# Altium footprint library Actel IGLOO nano.PcbLib: 12 footprints
Each footprint in its own frame and in the unit in brackets; x right, y up, seen from the top. Pads: shape width x height; smd on the part's side, far side on the other; paste and mask are expansions set on the pad; w line width, h text height; cw(c..) or ccw(c..) is an arc to the next point about the centre after c.
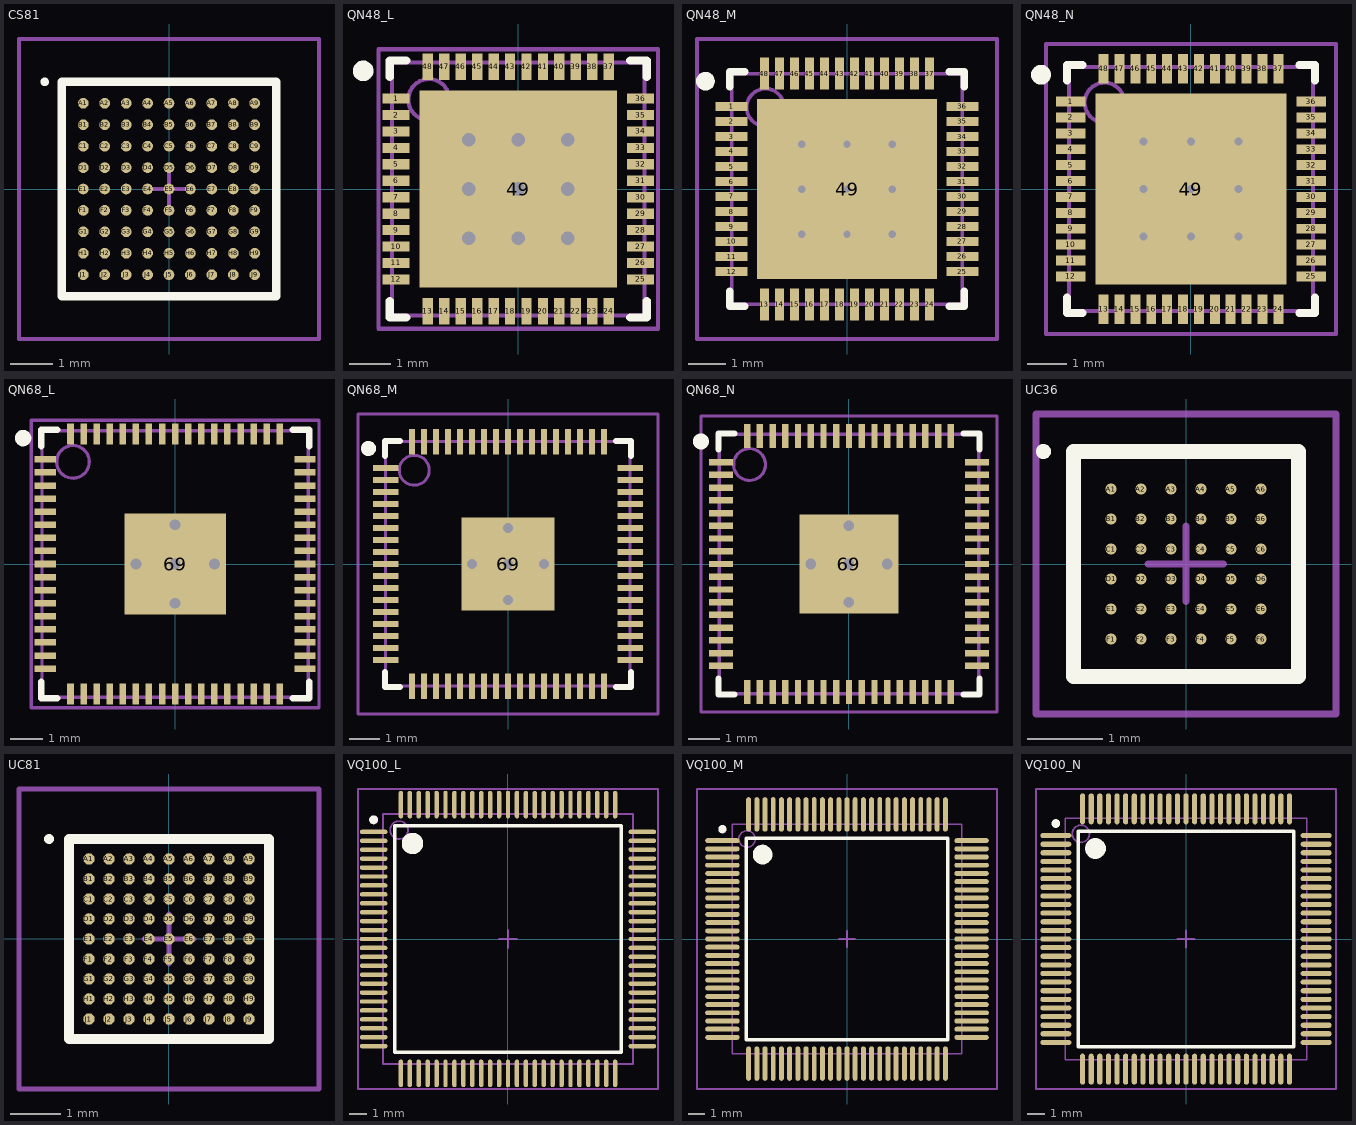
[diagram p0: the footprints below, top view; thin cyan lines are the x and y axes]

## CS81 [mm] "BGA, 81-Leads, Body 5x5mm, Pitch 0.5mm"
height 0.8
pads (81):
  round 0.25 smd: A1(-2,2) A2(-1.5,2) A3(-1,2) A4(-0.5,2) A5(0,2) A6(0.5,2) A7(1,2) A8(1.5,2) A9(2,2) B1(-2,1.5) B2(-1.5,1.5) B3(-1,1.5) B4(-0.5,1.5) B5(0,1.5) B6(0.5,1.5) B7(1,1.5) B8(1.5,1.5) B9(2,1.5) C1(-2,1) C2(-1.5,1) C3(-1,1) C4(-0.5,1) C5(0,1) C6(0.5,1) C7(1,1) C8(1.5,1) C9(2,1) D1(-2,0.5) D2(-1.5,0.5) D3(-1,0.5) D4(-0.5,0.5) D5(0,0.5) D6(0.5,0.5) D7(1,0.5) D8(1.5,0.5) D9(2,0.5) E1(-2,0) E2(-1.5,0) E3(-1,0) E4(-0.5,0) E5(0,0) E6(0.5,0) E7(1,0) E8(1.5,0) E9(2,0) F1(-2,-0.5) F2(-1.5,-0.5) F3(-1,-0.5) F4(-0.5,-0.5) F5(0,-0.5) F6(0.5,-0.5) F7(1,-0.5) F8(1.5,-0.5) F9(2,-0.5) G1(-2,-1) G2(-1.5,-1) G3(-1,-1) G4(-0.5,-1) G5(0,-1) G6(0.5,-1) G7(1,-1) G8(1.5,-1) G9(2,-1) H1(-2,-1.5) H2(-1.5,-1.5) H3(-1,-1.5) H4(-0.5,-1.5) H5(0,-1.5) H6(0.5,-1.5) H7(1,-1.5) H8(1.5,-1.5) H9(2,-1.5) J1(-2,-2) J2(-1.5,-2) J3(-1,-2) J4(-0.5,-2) J5(0,-2) J6(0.5,-2) J7(1,-2) J8(1.5,-2) J9(2,-2)
Top Overlay:
  circle w0.1: c-2.9,2.5 r0.05
  lines w0.2: -2.5,-2.5 -2.5,2.5 2.5,2.5 2.5,-2.5 -2.5,-2.5
Mechanical 13:
  lines w0.1: -2.5,-2.5 -2.5,2.5 2.5,2.5 2.5,-2.5 -2.5,-2.5
Mechanical 15:
  lines w0.1: -0.5,0 0.5,0 ; 0,-0.5 0,0.5 ; -3.5,-3.5 -3.5,3.5 3.5,3.5 3.5,-3.5 -3.5,-3.5
3D body: height 0.8, standoff 0.05, extent -2.5,-2.5 2.5,2.5

## QN48_L [mm] "QFN, 48-Leads, Body 6x6 mm, Pitch 0.4mm, IPC High Density"
height 1
pads (49):
  rect 0.65x0.25 smd: 1(-2.975,2.2) 2(-2.975,1.8) 3(-2.975,1.4) 4(-2.975,1) 5(-2.975,0.6) 6(-2.975,0.2) 7(-2.975,-0.2) 8(-2.975,-0.6) 9(-2.975,-1) 10(-2.975,-1.4) 11(-2.975,-1.8) 12(-2.975,-2.2) 25(2.975,-2.2) 26(2.975,-1.8) 27(2.975,-1.4) 28(2.975,-1) 29(2.975,-0.6) 30(2.975,-0.2) 31(2.975,0.2) 32(2.975,0.6) 33(2.975,1) 34(2.975,1.4) 35(2.975,1.8) 36(2.975,2.2)
  rect 0.25x0.65 smd: 13(-2.2,-2.975) 14(-1.8,-2.975) 15(-1.4,-2.975) 16(-1,-2.975) 17(-0.6,-2.975) 18(-0.2,-2.975) 19(0.2,-2.975) 20(0.6,-2.975) 21(1,-2.975) 22(1.4,-2.975) 23(1.8,-2.975) 24(2.2,-2.975) 37(2.2,2.975) 38(1.8,2.975) 39(1.4,2.975) 40(1,2.975) 41(0.6,2.975) 42(0.2,2.975) 43(-0.2,2.975) 44(-0.6,2.975) 45(-1,2.975) 46(-1.4,2.975) 47(-1.8,2.975) 48(-2.2,2.975)
  rect 4.8x4.8 smd paste-2.4 mask+0.062: 49(0,0)
via 1.2,1.2 diameter 0.66 hole 0.33
via -1.2,1.2 diameter 0.66 hole 0.33
via 0,1.2 diameter 0.66 hole 0.33
via 1.2,-1.2 diameter 0.66 hole 0.33
via -1.2,-1.2 diameter 0.66 hole 0.33
via 0,-1.2 diameter 0.66 hole 0.33
via 0,0 diameter 0.66 hole 0.33
via -1.2,0 diameter 0.66 hole 0.33
via 1.2,0 diameter 0.66 hole 0.33
Top Overlay:
  circle w0.25: c-3.775,2.875 r0.125
  lines w0.2: -3.125,-2.725 -3.125,-3.125 -2.725,-3.125 ; -3.125,2.725 -3.125,3.125 -2.725,3.125 ; 2.725,-3.125 3.125,-3.125 3.125,-2.725 ; 2.725,3.125 3.125,3.125 3.125,2.725
Top Paste:
  rectangle: 0.1,-1.1 1.1,-0.1
  rectangle: 1.3,-2.3 2.3,-1.3
  rectangle: 1.3,-1.1 2.3,-0.1
  rectangle: 0.1,-2.3 1.1,-1.3
  region: -0.1,-0.1 -1.1,-0.1 -1.1,-1.1 -0.1,-1.1
  region: -1.3,-1.3 -2.3,-1.3 -2.3,-2.3 -1.3,-2.3
  region: -1.3,-0.1 -2.3,-0.1 -2.3,-1.1 -1.3,-1.1
  region: -0.1,-1.3 -1.1,-1.3 -1.1,-2.3 -0.1,-2.3
  region: -0.1,1.1 -1.1,1.1 -1.1,0.1 -0.1,0.1
  region: -1.3,2.3 -2.3,2.3 -2.3,1.3 -1.3,1.3
  region: -1.3,1.1 -2.3,1.1 -2.3,0.1 -1.3,0.1
  region: -0.1,2.3 -1.1,2.3 -1.1,1.3 -0.1,1.3
  rectangle: 0.1,1.3 1.1,2.3
  rectangle: 1.3,0.1 2.3,1.1
  rectangle: 1.3,1.3 2.3,2.3
  rectangle: 0.1,0.1 1.1,1.1
Mechanical 13:
  circle w0.1: c-2.175,2.175 r0.5
  lines w0.1: -3.075,-3.075 3.075,-3.075 3.075,3.075 -3.075,3.075 -3.075,-3.075
Mechanical 15:
  lines w0.1: -0.5,0 0.5,0 ; 0,-0.5 0,0.5 ; -3.4,-3.4 3.4,-3.4 3.4,3.4 -3.4,3.4 -3.4,-3.4
3D body: height 1, standoff 0, extent -3.074,-3.074 3.074,3.074

## QN48_M [mm] "QFN, 48-Leads, Body 6x6 mm, Pitch 0.4mm, IPC Low Density"
height 1
pads (49):
  rect 0.85x0.25 smd: 1(-3.075,2.2) 2(-3.075,1.8) 3(-3.075,1.4) 4(-3.075,1) 5(-3.075,0.6) 6(-3.075,0.2) 7(-3.075,-0.2) 8(-3.075,-0.6) 9(-3.075,-1) 10(-3.075,-1.4) 11(-3.075,-1.8) 12(-3.075,-2.2) 25(3.075,-2.2) 26(3.075,-1.8) 27(3.075,-1.4) 28(3.075,-1) 29(3.075,-0.6) 30(3.075,-0.2) 31(3.075,0.2) 32(3.075,0.6) 33(3.075,1) 34(3.075,1.4) 35(3.075,1.8) 36(3.075,2.2)
  rect 0.25x0.85 smd: 13(-2.2,-3.075) 14(-1.8,-3.075) 15(-1.4,-3.075) 16(-1,-3.075) 17(-0.6,-3.075) 18(-0.2,-3.075) 19(0.2,-3.075) 20(0.6,-3.075) 21(1,-3.075) 22(1.4,-3.075) 23(1.8,-3.075) 24(2.2,-3.075) 37(2.2,3.075) 38(1.8,3.075) 39(1.4,3.075) 40(1,3.075) 41(0.6,3.075) 42(0.2,3.075) 43(-0.2,3.075) 44(-0.6,3.075) 45(-1,3.075) 46(-1.4,3.075) 47(-1.8,3.075) 48(-2.2,3.075)
  rect 4.8x4.8 smd paste-2.4 mask+0.062: 49(0,0)
via 1.2,1.2 diameter 0.5 hole 0.2
via -1.2,1.2 diameter 0.5 hole 0.2
via 0,1.2 diameter 0.5 hole 0.2
via 1.2,-1.2 diameter 0.5 hole 0.2
via -1.2,-1.2 diameter 0.5 hole 0.2
via 0,-1.2 diameter 0.5 hole 0.2
via 0,0 diameter 0.5 hole 0.2
via -1.2,0 diameter 0.5 hole 0.2
via 1.2,0 diameter 0.5 hole 0.2
Top Overlay:
  circle w0.25: c-3.775,2.875 r0.125
  lines w0.2: -3.125,-2.725 -3.125,-3.125 -2.725,-3.125 ; -3.125,2.725 -3.125,3.125 -2.725,3.125 ; 2.725,-3.125 3.125,-3.125 3.125,-2.725 ; 2.725,3.125 3.125,3.125 3.125,2.725
Top Paste:
  rectangle: 0.1,-1.1 1.1,-0.1
  rectangle: 1.3,-2.3 2.3,-1.3
  rectangle: 1.3,-1.1 2.3,-0.1
  rectangle: 0.1,-2.3 1.1,-1.3
  region: -0.1,-0.1 -1.1,-0.1 -1.1,-1.1 -0.1,-1.1
  region: -1.3,-1.3 -2.3,-1.3 -2.3,-2.3 -1.3,-2.3
  region: -1.3,-0.1 -2.3,-0.1 -2.3,-1.1 -1.3,-1.1
  region: -0.1,-1.3 -1.1,-1.3 -1.1,-2.3 -0.1,-2.3
  region: -0.1,1.1 -1.1,1.1 -1.1,0.1 -0.1,0.1
  region: -1.3,2.3 -2.3,2.3 -2.3,1.3 -1.3,1.3
  region: -1.3,1.1 -2.3,1.1 -2.3,0.1 -1.3,0.1
  region: -0.1,2.3 -1.1,2.3 -1.1,1.3 -0.1,1.3
  rectangle: 0.1,1.3 1.1,2.3
  rectangle: 1.3,0.1 2.3,1.1
  rectangle: 1.3,1.3 2.3,2.3
  rectangle: 0.1,0.1 1.1,1.1
Mechanical 13:
  circle w0.1: c-2.175,2.175 r0.5
  lines w0.1: -3.075,-3.075 -3.075,3.075 3.075,3.075 3.075,-3.075 -3.075,-3.075
Mechanical 15:
  lines w0.1: -0.5,0 0.5,0 ; 0,-0.5 0,0.5 ; -4,-4 -4,4 4,4 4,-4 -4,-4
3D body: height 1, standoff 0, extent -3.074,-3.074 3.074,3.074

## QN48_N [mm] "QFN, 48-Leads, Body 6x6 mm, Pitch 0.4mm, IPC Medium Density"
height 1
pads (49):
  rect 0.75x0.25 smd: 1(-3.025,2.2) 2(-3.025,1.8) 3(-3.025,1.4) 4(-3.025,1) 5(-3.025,0.6) 6(-3.025,0.2) 7(-3.025,-0.2) 8(-3.025,-0.6) 9(-3.025,-1) 10(-3.025,-1.4) 11(-3.025,-1.8) 12(-3.025,-2.2) 25(3.025,-2.2) 26(3.025,-1.8) 27(3.025,-1.4) 28(3.025,-1) 29(3.025,-0.6) 30(3.025,-0.2) 31(3.025,0.2) 32(3.025,0.6) 33(3.025,1) 34(3.025,1.4) 35(3.025,1.8) 36(3.025,2.2)
  rect 0.25x0.75 smd: 13(-2.2,-3.025) 14(-1.8,-3.025) 15(-1.4,-3.025) 16(-1,-3.025) 17(-0.6,-3.025) 18(-0.2,-3.025) 19(0.2,-3.025) 20(0.6,-3.025) 21(1,-3.025) 22(1.4,-3.025) 23(1.8,-3.025) 24(2.2,-3.025) 37(2.2,3.025) 38(1.8,3.025) 39(1.4,3.025) 40(1,3.025) 41(0.6,3.025) 42(0.2,3.025) 43(-0.2,3.025) 44(-0.6,3.025) 45(-1,3.025) 46(-1.4,3.025) 47(-1.8,3.025) 48(-2.2,3.025)
  rect 4.8x4.8 smd paste-2.4 mask+0.062: 49(0,0)
via 1.2,0 diameter 0.5 hole 0.2
via -1.2,0 diameter 0.5 hole 0.2
via 0,0 diameter 0.5 hole 0.2
via 0,-1.2 diameter 0.5 hole 0.2
via -1.2,-1.2 diameter 0.5 hole 0.2
via 1.2,-1.2 diameter 0.5 hole 0.2
via 0,1.2 diameter 0.5 hole 0.2
via -1.2,1.2 diameter 0.5 hole 0.2
via 1.2,1.2 diameter 0.5 hole 0.2
Top Overlay:
  circle w0.25: c-3.775,2.875 r0.125
  lines w0.2: -3.125,-2.725 -3.125,-3.125 -2.725,-3.125 ; -3.125,2.725 -3.125,3.125 -2.725,3.125 ; 2.725,-3.125 3.125,-3.125 3.125,-2.725 ; 2.725,3.125 3.125,3.125 3.125,2.725
Top Paste:
  rectangle: 0.1,0.1 1.1,1.1
  rectangle: 1.3,1.3 2.3,2.3
  rectangle: 1.3,0.1 2.3,1.1
  rectangle: 0.1,1.3 1.1,2.3
  region: -0.1,2.3 -1.1,2.3 -1.1,1.3 -0.1,1.3
  region: -1.3,1.1 -2.3,1.1 -2.3,0.1 -1.3,0.1
  region: -1.3,2.3 -2.3,2.3 -2.3,1.3 -1.3,1.3
  region: -0.1,1.1 -1.1,1.1 -1.1,0.1 -0.1,0.1
  region: -0.1,-1.3 -1.1,-1.3 -1.1,-2.3 -0.1,-2.3
  region: -1.3,-0.1 -2.3,-0.1 -2.3,-1.1 -1.3,-1.1
  region: -1.3,-1.3 -2.3,-1.3 -2.3,-2.3 -1.3,-2.3
  region: -0.1,-0.1 -1.1,-0.1 -1.1,-1.1 -0.1,-1.1
  rectangle: 0.1,-2.3 1.1,-1.3
  rectangle: 1.3,-1.1 2.3,-0.1
  rectangle: 1.3,-2.3 2.3,-1.3
  rectangle: 0.1,-1.1 1.1,-0.1
Mechanical 13:
  circle w0.1: c-2.175,2.175 r0.5
  lines w0.1: -3.075,-3.075 3.075,-3.075 3.075,3.075 -3.075,3.075 -3.075,-3.075
Mechanical 15:
  lines w0.1: -0.5,0 0.5,0 ; 0,-0.5 0,0.5 ; -3.65,-3.65 3.65,-3.65 3.65,3.65 -3.65,3.65 -3.65,-3.65
3D body: height 1, standoff 0, extent -3.074,-3.074 3.074,3.074

## QN68_L [mm] "QFN, 68-Leads, Body 8x8 mm, Pitch 0.4mm, IPC High Density"
height 1
pads (69):
  rect 0.65x0.2 smd: 1(-3.975,3.2) 2(-3.975,2.8) 3(-3.975,2.4) 4(-3.975,2) 5(-3.975,1.6) 6(-3.975,1.2) 7(-3.975,0.8) 8(-3.975,0.4) 9(-3.975,0) 10(-3.975,-0.4) 11(-3.975,-0.8) 12(-3.975,-1.2) 13(-3.975,-1.6) 14(-3.975,-2) 15(-3.975,-2.4) 16(-3.975,-2.8) 17(-3.975,-3.2) 35(3.975,-3.2) 36(3.975,-2.8) 37(3.975,-2.4) 38(3.975,-2) 39(3.975,-1.6) 40(3.975,-1.2) 41(3.975,-0.8) 42(3.975,-0.4) 43(3.975,0) 44(3.975,0.4) 45(3.975,0.8) 46(3.975,1.2) 47(3.975,1.6) 48(3.975,2) 49(3.975,2.4) 50(3.975,2.8) 51(3.975,3.2)
  rect 0.2x0.65 smd: 18(-3.2,-3.975) 19(-2.8,-3.975) 20(-2.4,-3.975) 21(-2,-3.975) 22(-1.6,-3.975) 23(-1.2,-3.975) 24(-0.8,-3.975) 25(-0.4,-3.975) 26(0,-3.975) 27(0.4,-3.975) 28(0.8,-3.975) 29(1.2,-3.975) 30(1.6,-3.975) 31(2,-3.975) 32(2.4,-3.975) 33(2.8,-3.975) 34(3.2,-3.975) 52(3.2,3.975) 53(2.8,3.975) 54(2.4,3.975) 55(2,3.975) 56(1.6,3.975) 57(1.2,3.975) 58(0.8,3.975) 59(0.4,3.975) 60(0,3.975) 61(-0.4,3.975) 62(-0.8,3.975) 63(-1.2,3.975) 64(-1.6,3.975) 65(-2,3.975) 66(-2.4,3.975) 67(-2.8,3.975) 68(-3.2,3.975)
  rect 3.1x3.1 smd paste-1.55 mask+0.062: 69(0,0)
via 0,-1.2 diameter 0.66 hole 0.33
via 1.2,0 diameter 0.66 hole 0.33
via 0,0 diameter 0.66 hole 0.33
via -1.2,0 diameter 0.66 hole 0.33
via 0,1.2 diameter 0.66 hole 0.33
Top Overlay:
  circle w0.25: c-4.65,3.85 r0.125
  lines w0.2: -4.1,-3.6 -4.1,-4.1 -3.6,-4.1 ; -4.1,3.6 -4.1,4.1 -3.6,4.1 ; 3.6,-4.1 4.1,-4.1 4.1,-3.6 ; 3.6,4.1 4.1,4.1 4.1,3.6
Top Paste:
  rectangle: 0.1,-1.4 1.4,-0.1
  region: -0.1,-0.1 -1.4,-0.1 -1.4,-1.4 -0.1,-1.4
  region: -0.1,1.4 -1.4,1.4 -1.4,0.1 -0.1,0.1
  rectangle: 0.1,0.1 1.4,1.4
Mechanical 13:
  circle w0.1: c-3.125,3.125 r0.5
  lines w0.1: -4.075,-4.075 -4.075,4.075 4.075,4.075 4.075,-4.075 -4.075,-4.075
Mechanical 15:
  lines w0.1: -0.5,0 0.5,0 ; 0,-0.5 0,0.5 ; -4.4,-4.4 -4.4,4.4 4.4,4.4 4.4,-4.4 -4.4,-4.4
3D body: height 1, standoff 0, extent -4.074,-4.074 4.074,4.074

## QN68_M [mm] "QFN, 68-Leads, Body 8x8 mm, Pitch 0.4mm, IPC Low Density"
height 1
pads (69):
  rect 0.85x0.2 smd: 1(-4.075,3.2) 2(-4.075,2.8) 3(-4.075,2.4) 4(-4.075,2) 5(-4.075,1.6) 6(-4.075,1.2) 7(-4.075,0.8) 8(-4.075,0.4) 9(-4.075,0) 10(-4.075,-0.4) 11(-4.075,-0.8) 12(-4.075,-1.2) 13(-4.075,-1.6) 14(-4.075,-2) 15(-4.075,-2.4) 16(-4.075,-2.8) 17(-4.075,-3.2) 35(4.075,-3.2) 36(4.075,-2.8) 37(4.075,-2.4) 38(4.075,-2) 39(4.075,-1.6) 40(4.075,-1.2) 41(4.075,-0.8) 42(4.075,-0.4) 43(4.075,0) 44(4.075,0.4) 45(4.075,0.8) 46(4.075,1.2) 47(4.075,1.6) 48(4.075,2) 49(4.075,2.4) 50(4.075,2.8) 51(4.075,3.2)
  rect 0.2x0.85 smd: 18(-3.2,-4.075) 19(-2.8,-4.075) 20(-2.4,-4.075) 21(-2,-4.075) 22(-1.6,-4.075) 23(-1.2,-4.075) 24(-0.8,-4.075) 25(-0.4,-4.075) 26(0,-4.075) 27(0.4,-4.075) 28(0.8,-4.075) 29(1.2,-4.075) 30(1.6,-4.075) 31(2,-4.075) 32(2.4,-4.075) 33(2.8,-4.075) 34(3.2,-4.075) 52(3.2,4.075) 53(2.8,4.075) 54(2.4,4.075) 55(2,4.075) 56(1.6,4.075) 57(1.2,4.075) 58(0.8,4.075) 59(0.4,4.075) 60(0,4.075) 61(-0.4,4.075) 62(-0.8,4.075) 63(-1.2,4.075) 64(-1.6,4.075) 65(-2,4.075) 66(-2.4,4.075) 67(-2.8,4.075) 68(-3.2,4.075)
  rect 3.1x3.1 smd paste-1.55 mask+0.062: 69(0,0)
via 0,1.2 diameter 0.66 hole 0.33
via -1.2,0 diameter 0.66 hole 0.33
via 0,0 diameter 0.66 hole 0.33
via 1.2,0 diameter 0.66 hole 0.33
via 0,-1.2 diameter 0.66 hole 0.33
Top Overlay:
  circle w0.25: c-4.65,3.85 r0.125
  lines w0.2: -4.1,-3.6 -4.1,-4.1 -3.6,-4.1 ; -4.1,3.6 -4.1,4.1 -3.6,4.1 ; 3.6,-4.1 4.1,-4.1 4.1,-3.6 ; 3.6,4.1 4.1,4.1 4.1,3.6
Top Paste:
  rectangle: 0.1,0.1 1.4,1.4
  region: -0.1,1.4 -1.4,1.4 -1.4,0.1 -0.1,0.1
  region: -0.1,-0.1 -1.4,-0.1 -1.4,-1.4 -0.1,-1.4
  rectangle: 0.1,-1.4 1.4,-0.1
Mechanical 13:
  circle w0.1: c-3.125,3.125 r0.5
  lines w0.1: -4.075,-4.075 -4.075,4.075 4.075,4.075 4.075,-4.075 -4.075,-4.075
Mechanical 15:
  lines w0.1: -0.5,0 0.5,0 ; 0,-0.5 0,0.5 ; -5,-5 -5,5 5,5 5,-5 -5,-5
3D body: height 1, standoff 0, extent -4.074,-4.074 4.074,4.074

## QN68_N [mm] "QFN, 68-Leads, Body 8x8 mm, Pitch 0.4mm, IPC Medium Density"
height 1
pads (69):
  rect 0.75x0.2 smd: 1(-4.025,3.2) 2(-4.025,2.8) 3(-4.025,2.4) 4(-4.025,2) 5(-4.025,1.6) 6(-4.025,1.2) 7(-4.025,0.8) 8(-4.025,0.4) 9(-4.025,0) 10(-4.025,-0.4) 11(-4.025,-0.8) 12(-4.025,-1.2) 13(-4.025,-1.6) 14(-4.025,-2) 15(-4.025,-2.4) 16(-4.025,-2.8) 17(-4.025,-3.2) 35(4.025,-3.2) 36(4.025,-2.8) 37(4.025,-2.4) 38(4.025,-2) 39(4.025,-1.6) 40(4.025,-1.2) 41(4.025,-0.8) 42(4.025,-0.4) 43(4.025,0) 44(4.025,0.4) 45(4.025,0.8) 46(4.025,1.2) 47(4.025,1.6) 48(4.025,2) 49(4.025,2.4) 50(4.025,2.8) 51(4.025,3.2)
  rect 0.2x0.75 smd: 18(-3.2,-4.025) 19(-2.8,-4.025) 20(-2.4,-4.025) 21(-2,-4.025) 22(-1.6,-4.025) 23(-1.2,-4.025) 24(-0.8,-4.025) 25(-0.4,-4.025) 26(0,-4.025) 27(0.4,-4.025) 28(0.8,-4.025) 29(1.2,-4.025) 30(1.6,-4.025) 31(2,-4.025) 32(2.4,-4.025) 33(2.8,-4.025) 34(3.2,-4.025) 52(3.2,4.025) 53(2.8,4.025) 54(2.4,4.025) 55(2,4.025) 56(1.6,4.025) 57(1.2,4.025) 58(0.8,4.025) 59(0.4,4.025) 60(0,4.025) 61(-0.4,4.025) 62(-0.8,4.025) 63(-1.2,4.025) 64(-1.6,4.025) 65(-2,4.025) 66(-2.4,4.025) 67(-2.8,4.025) 68(-3.2,4.025)
  rect 3.1x3.1 smd paste-1.55 mask+0.062: 69(0,0)
via 0,-1.2 diameter 0.66 hole 0.33
via 1.2,0 diameter 0.66 hole 0.33
via 0,0 diameter 0.66 hole 0.33
via -1.2,0 diameter 0.66 hole 0.33
via 0,1.2 diameter 0.66 hole 0.33
Top Overlay:
  circle w0.25: c-4.65,3.85 r0.125
  lines w0.2: -4.1,-3.6 -4.1,-4.1 -3.6,-4.1 ; -4.1,3.6 -4.1,4.1 -3.6,4.1 ; 3.6,-4.1 4.1,-4.1 4.1,-3.6 ; 3.6,4.1 4.1,4.1 4.1,3.6
Top Paste:
  rectangle: 0.1,-1.4 1.4,-0.1
  region: -0.1,-0.1 -1.4,-0.1 -1.4,-1.4 -0.1,-1.4
  region: -0.1,1.4 -1.4,1.4 -1.4,0.1 -0.1,0.1
  rectangle: 0.1,0.1 1.4,1.4
Mechanical 13:
  circle w0.1: c-3.125,3.125 r0.5
  lines w0.1: -4.075,-4.075 4.075,-4.075 4.075,4.075 -4.075,4.075 -4.075,-4.075
Mechanical 15:
  lines w0.1: -0.5,0 0.5,0 ; 0,-0.5 0,0.5 ; -4.65,-4.65 4.65,-4.65 4.65,4.65 -4.65,4.65 -4.65,-4.65
3D body: height 1, standoff 0, extent -4.074,-4.074 4.074,4.074

## UC36 [mm] "BGA, 36-Leads, Body 3x3mm, Pitch 0.4mm"
height 0.8
pads (36):
  round 0.15 smd: A1(-1,1) A2(-0.6,1) A3(-0.2,1) A4(0.2,1) A5(0.6,1) A6(1,1) B1(-1,0.6) B2(-0.6,0.6) B3(-0.2,0.6) B4(0.2,0.6) B5(0.6,0.6) B6(1,0.6) C1(-1,0.2) C2(-0.6,0.2) C3(-0.2,0.2) C4(0.2,0.2) C5(0.6,0.2) C6(1,0.2) D1(-1,-0.2) D2(-0.6,-0.2) D3(-0.2,-0.2) D4(0.2,-0.2) D5(0.6,-0.2) D6(1,-0.2) E1(-1,-0.6) E2(-0.6,-0.6) E3(-0.2,-0.6) E4(0.2,-0.6) E5(0.6,-0.6) E6(1,-0.6) F1(-1,-1) F2(-0.6,-1) F3(-0.2,-1) F4(0.2,-1) F5(0.6,-1) F6(1,-1)
Top Overlay:
  circle w0.1: c-1.9,1.5 r0.05
  lines w0.2: -1.5,-1.5 1.5,-1.5 1.5,1.5 -1.5,1.5 -1.5,-1.5
Mechanical 13:
  lines w0.1: -1.5,-1.5 1.5,-1.5 1.5,1.5 -1.5,1.5 -1.5,-1.5
Mechanical 15:
  lines w0.1: -0.5,0 0.5,0 ; 0,-0.5 0,0.5 ; -2,-2 -2,2 2,2 2,-2 -2,-2
3D body: height 0.8, standoff 0.02, extent -1.5,-1.5 1.5,1.5

## UC81 [mm] "BGA, 81-Leads, Body 4x4mm, Pitch 0.4mm"
height 0.8
pads (81):
  round 0.23 smd: A1(-1.6,1.6) A2(-1.2,1.6) A3(-0.8,1.6) A4(-0.4,1.6) A5(0,1.6) A6(0.4,1.6) A7(0.8,1.6) A8(1.2,1.6) A9(1.6,1.6) B1(-1.6,1.2) B2(-1.2,1.2) B3(-0.8,1.2) B4(-0.4,1.2) B5(0,1.2) B6(0.4,1.2) B7(0.8,1.2) B8(1.2,1.2) B9(1.6,1.2) C1(-1.6,0.8) C2(-1.2,0.8) C3(-0.8,0.8) C4(-0.4,0.8) C5(0,0.8) C6(0.4,0.8) C7(0.8,0.8) C8(1.2,0.8) C9(1.6,0.8) D1(-1.6,0.4) D2(-1.2,0.4) D3(-0.8,0.4) D4(-0.4,0.4) D5(0,0.4) D6(0.4,0.4) D7(0.8,0.4) D8(1.2,0.4) D9(1.6,0.4) E1(-1.6,0) E2(-1.2,0) E3(-0.8,0) E4(-0.4,0) E5(0,0) E6(0.4,0) E7(0.8,0) E8(1.2,0) E9(1.6,0) F1(-1.6,-0.4) F2(-1.2,-0.4) F3(-0.8,-0.4) F4(-0.4,-0.4) F5(0,-0.4) F6(0.4,-0.4) F7(0.8,-0.4) F8(1.2,-0.4) F9(1.6,-0.4) G1(-1.6,-0.8) G2(-1.2,-0.8) G3(-0.8,-0.8) G4(-0.4,-0.8) G5(0,-0.8) G6(0.4,-0.8) G7(0.8,-0.8) G8(1.2,-0.8) G9(1.6,-0.8) H1(-1.6,-1.2) H2(-1.2,-1.2) H3(-0.8,-1.2) H4(-0.4,-1.2) H5(0,-1.2) H6(0.4,-1.2) H7(0.8,-1.2) H8(1.2,-1.2) H9(1.6,-1.2) J1(-1.6,-1.6) J2(-1.2,-1.6) J3(-0.8,-1.6) J4(-0.4,-1.6) J5(0,-1.6) J6(0.4,-1.6) J7(0.8,-1.6) J8(1.2,-1.6) J9(1.6,-1.6)
Top Overlay:
  circle w0.1: c-2.4,2 r0.05
  lines w0.2: -2,-2 2,-2 2,2 -2,2 -2,-2
Mechanical 13:
  lines w0.1: -2,-2 2,-2 2,2 -2,2 -2,-2
Mechanical 15:
  lines w0.1: -0.5,0 0.5,0 ; 0,-0.5 0,0.5 ; -3,-3 3,-3 3,3 -3,3 -3,-3
3D body: height 0.8, standoff 0.05, extent -2,-2 2,2

## VQ100_L [mm] "Thin QFP, 100-Leads, Body 14x14mm, Pitch 0.5mm, IPC High Density"
height 1.2
pads (100):
  oval 1.55x0.25 smd: 1(-7.525,6) 2(-7.525,5.5) 3(-7.525,5) 4(-7.525,4.5) 5(-7.525,4) 6(-7.525,3.5) 7(-7.525,3) 8(-7.525,2.5) 9(-7.525,2) 10(-7.525,1.5) 11(-7.525,1) 12(-7.525,0.5) 13(-7.525,0) 14(-7.525,-0.5) 15(-7.525,-1) 16(-7.525,-1.5) 17(-7.525,-2) 18(-7.525,-2.5) 19(-7.525,-3) 20(-7.525,-3.5) 21(-7.525,-4) 22(-7.525,-4.5) 23(-7.525,-5) 24(-7.525,-5.5) 25(-7.525,-6) 51(7.525,-6) 52(7.525,-5.5) 53(7.525,-5) 54(7.525,-4.5) 55(7.525,-4) 56(7.525,-3.5) 57(7.525,-3) 58(7.525,-2.5) 59(7.525,-2) 60(7.525,-1.5) 61(7.525,-1) 62(7.525,-0.5) 63(7.525,0) 64(7.525,0.5) 65(7.525,1) 66(7.525,1.5) 67(7.525,2) 68(7.525,2.5) 69(7.525,3) 70(7.525,3.5) 71(7.525,4) 72(7.525,4.5) 73(7.525,5) 74(7.525,5.5) 75(7.525,6)
  oval 0.25x1.55 smd: 26(-6,-7.525) 27(-5.5,-7.525) 28(-5,-7.525) 29(-4.5,-7.525) 30(-4,-7.525) 31(-3.5,-7.525) 32(-3,-7.525) 33(-2.5,-7.525) 34(-2,-7.525) 35(-1.5,-7.525) 36(-1,-7.525) 37(-0.5,-7.525) 38(0,-7.525) 39(0.5,-7.525) 40(1,-7.525) 41(1.5,-7.525) 42(2,-7.525) 43(2.5,-7.525) 44(3,-7.525) 45(3.5,-7.525) 46(4,-7.525) 47(4.5,-7.525) 48(5,-7.525) 49(5.5,-7.525) 50(6,-7.525) 76(6,7.525) 77(5.5,7.525) 78(5,7.525) 79(4.5,7.525) 80(4,7.525) 81(3.5,7.525) 82(3,7.525) 83(2.5,7.525) 84(2,7.525) 85(1.5,7.525) 86(1,7.525) 87(0.5,7.525) 88(0,7.525) 89(-0.5,7.525) 90(-1,7.525) 91(-1.5,7.525) 92(-2,7.525) 93(-2.5,7.525) 94(-3,7.525) 95(-3.5,7.525) 96(-4,7.525) 97(-4.5,7.525) 98(-5,7.525) 99(-5.5,7.525) 100(-6,7.525)
Top Overlay:
  circle w0.6: c-5.35,5.35 r0.3
  circle w0.25: c-7.525,6.675 r0.125
  lines w0.2: -6.35,-6.35 6.35,-6.35 6.35,6.35 -6.35,6.35 -6.35,-6.35
Mechanical 13:
  circle w0.1: c-6.1,6.1 r0.5
  lines w0.1: -7,-7 7,-7 7,7 -7,7 -7,-7
Mechanical 15:
  lines w0.1: -0.5,0 0.5,0 ; 0,-0.5 0,0.5 ; -8.4,-8.4 8.4,-8.4 8.4,8.4 -8.4,8.4 -8.4,-8.4
3D body: height 1.2, standoff 0, extent -7,-7 7,7

## VQ100_M [mm] "Thin QFP, 100-Leads, Body 14x14mm, Pitch 0.5mm, IPC Low Density"
height 1.2
pads (100):
  oval 2.1x0.3 smd: 1(-7.6,6) 2(-7.6,5.5) 3(-7.6,5) 4(-7.6,4.5) 5(-7.6,4) 6(-7.6,3.5) 7(-7.6,3) 8(-7.6,2.5) 9(-7.6,2) 10(-7.6,1.5) 11(-7.6,1) 12(-7.6,0.5) 13(-7.6,0) 14(-7.6,-0.5) 15(-7.6,-1) 16(-7.6,-1.5) 17(-7.6,-2) 18(-7.6,-2.5) 19(-7.6,-3) 20(-7.6,-3.5) 21(-7.6,-4) 22(-7.6,-4.5) 23(-7.6,-5) 24(-7.6,-5.5) 25(-7.6,-6) 51(7.6,-6) 52(7.6,-5.5) 53(7.6,-5) 54(7.6,-4.5) 55(7.6,-4) 56(7.6,-3.5) 57(7.6,-3) 58(7.6,-2.5) 59(7.6,-2) 60(7.6,-1.5) 61(7.6,-1) 62(7.6,-0.5) 63(7.6,0) 64(7.6,0.5) 65(7.6,1) 66(7.6,1.5) 67(7.6,2) 68(7.6,2.5) 69(7.6,3) 70(7.6,3.5) 71(7.6,4) 72(7.6,4.5) 73(7.6,5) 74(7.6,5.5) 75(7.6,6)
  oval 0.3x2.1 smd: 26(-6,-7.6) 27(-5.5,-7.6) 28(-5,-7.6) 29(-4.5,-7.6) 30(-4,-7.6) 31(-3.5,-7.6) 32(-3,-7.6) 33(-2.5,-7.6) 34(-2,-7.6) 35(-1.5,-7.6) 36(-1,-7.6) 37(-0.5,-7.6) 38(0,-7.6) 39(0.5,-7.6) 40(1,-7.6) 41(1.5,-7.6) 42(2,-7.6) 43(2.5,-7.6) 44(3,-7.6) 45(3.5,-7.6) 46(4,-7.6) 47(4.5,-7.6) 48(5,-7.6) 49(5.5,-7.6) 50(6,-7.6) 76(6,7.6) 77(5.5,7.6) 78(5,7.6) 79(4.5,7.6) 80(4,7.6) 81(3.5,7.6) 82(3,7.6) 83(2.5,7.6) 84(2,7.6) 85(1.5,7.6) 86(1,7.6) 87(0.5,7.6) 88(0,7.6) 89(-0.5,7.6) 90(-1,7.6) 91(-1.5,7.6) 92(-2,7.6) 93(-2.5,7.6) 94(-3,7.6) 95(-3.5,7.6) 96(-4,7.6) 97(-4.5,7.6) 98(-5,7.6) 99(-5.5,7.6) 100(-6,7.6)
Top Overlay:
  circle w0.6: c-5.15,5.15 r0.3
  circle w0.25: c-7.6,6.7 r0.125
  lines w0.2: -6.15,-6.15 6.15,-6.15 6.15,6.15 -6.15,6.15 -6.15,-6.15
Mechanical 13:
  circle w0.1: c-6.1,6.1 r0.5
  lines w0.1: -7,-7 7,-7 7,7 -7,7 -7,-7
Mechanical 15:
  lines w0.1: -0.5,0 0.5,0 ; 0,-0.5 0,0.5 ; -9.15,-9.15 9.15,-9.15 9.15,9.15 -9.15,9.15 -9.15,-9.15
3D body: height 1.2, standoff 0, extent -7,-7 7,7

## VQ100_N [mm] "Thin QFP, 100-Leads, Body 14x14mm, Pitch 0.5mm, IPC Medium Density"
height 1.2
pads (100):
  oval 1.8x0.3 smd: 1(-7.55,6) 2(-7.55,5.5) 3(-7.55,5) 4(-7.55,4.5) 5(-7.55,4) 6(-7.55,3.5) 7(-7.55,3) 8(-7.55,2.5) 9(-7.55,2) 10(-7.55,1.5) 11(-7.55,1) 12(-7.55,0.5) 13(-7.55,0) 14(-7.55,-0.5) 15(-7.55,-1) 16(-7.55,-1.5) 17(-7.55,-2) 18(-7.55,-2.5) 19(-7.55,-3) 20(-7.55,-3.5) 21(-7.55,-4) 22(-7.55,-4.5) 23(-7.55,-5) 24(-7.55,-5.5) 25(-7.55,-6) 51(7.55,-6) 52(7.55,-5.5) 53(7.55,-5) 54(7.55,-4.5) 55(7.55,-4) 56(7.55,-3.5) 57(7.55,-3) 58(7.55,-2.5) 59(7.55,-2) 60(7.55,-1.5) 61(7.55,-1) 62(7.55,-0.5) 63(7.55,0) 64(7.55,0.5) 65(7.55,1) 66(7.55,1.5) 67(7.55,2) 68(7.55,2.5) 69(7.55,3) 70(7.55,3.5) 71(7.55,4) 72(7.55,4.5) 73(7.55,5) 74(7.55,5.5) 75(7.55,6)
  oval 0.3x1.8 smd: 26(-6,-7.55) 27(-5.5,-7.55) 28(-5,-7.55) 29(-4.5,-7.55) 30(-4,-7.55) 31(-3.5,-7.55) 32(-3,-7.55) 33(-2.5,-7.55) 34(-2,-7.55) 35(-1.5,-7.55) 36(-1,-7.55) 37(-0.5,-7.55) 38(0,-7.55) 39(0.5,-7.55) 40(1,-7.55) 41(1.5,-7.55) 42(2,-7.55) 43(2.5,-7.55) 44(3,-7.55) 45(3.5,-7.55) 46(4,-7.55) 47(4.5,-7.55) 48(5,-7.55) 49(5.5,-7.55) 50(6,-7.55) 76(6,7.55) 77(5.5,7.55) 78(5,7.55) 79(4.5,7.55) 80(4,7.55) 81(3.5,7.55) 82(3,7.55) 83(2.5,7.55) 84(2,7.55) 85(1.5,7.55) 86(1,7.55) 87(0.5,7.55) 88(0,7.55) 89(-0.5,7.55) 90(-1,7.55) 91(-1.5,7.55) 92(-2,7.55) 93(-2.5,7.55) 94(-3,7.55) 95(-3.5,7.55) 96(-4,7.55) 97(-4.5,7.55) 98(-5,7.55) 99(-5.5,7.55) 100(-6,7.55)
Top Overlay:
  circle w0.25: c-7.55,6.7 r0.125
  circle w0.6: c-5.25,5.25 r0.3
  lines w0.2: -6.25,-6.25 -6.25,6.25 6.25,6.25 6.25,-6.25 -6.25,-6.25
Mechanical 13:
  circle w0.1: c-6.1,6.1 r0.5
  lines w0.1: -7,-7 -7,7 7,7 7,-7 -7,-7
Mechanical 15:
  lines w0.1: -0.5,0 0.5,0 ; 0,-0.5 0,0.5 ; -8.7,-8.7 -8.7,8.7 8.7,8.7 8.7,-8.7 -8.7,-8.7
3D body: height 1.2, standoff 0, extent -7,-7 7,7